# Altium footprint library RCL.PcbLib: 3 footprints
Each footprint in its own frame and in the unit in brackets; x right, y up, seen from the top. Pads: shape width x height; smd on the part's side, far side on the other; paste and mask are expansions set on the pad; w line width, h text height; cw(c..) or ccw(c..) is an arc to the next point about the centre after c.
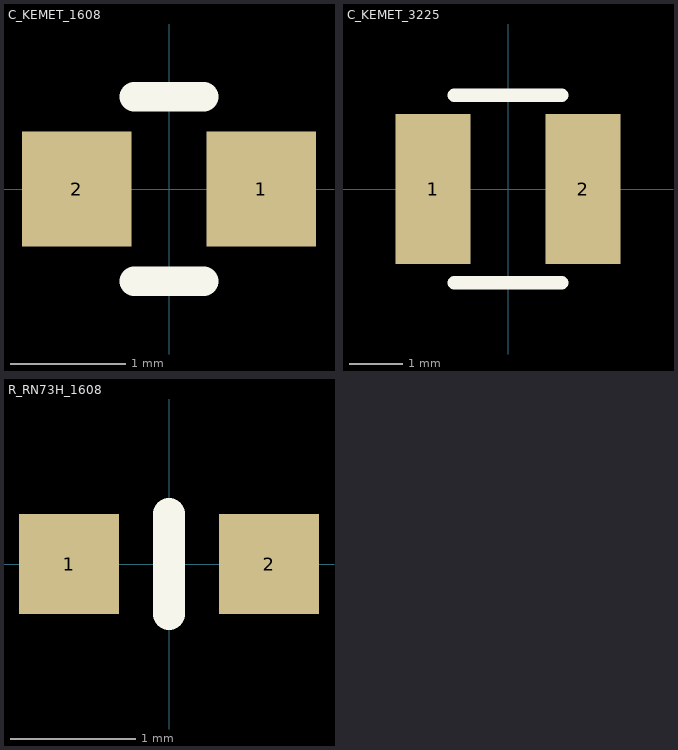
[diagram p0: the footprints below, top view; thin cyan lines are the x and y axes]

## C_KEMET_1608 [mm]
pads (2):
  rect 0.95x1 smd: 1(0.8,0) 2(-0.8,0)
Top Overlay:
  lines w0.254: -0.3,-0.8 0.3,-0.8 ; -0.3,0.8 0,0.8 0.3,0.8
3D body "C_KEMET_1608.step": height 0.8, standoff 0, extent -0.7,-0.4 0.7,0.4

## C_KEMET_3225 [mm]
pads (2):
  rect 1.4x2.8 smd: 1(-1.4,0) 2(1.4,0)
Top Overlay:
  lines w0.254: -1,-1.75 1,-1.75 ; -1,1.75 1,1.75
3D body "C_KEMET_3225.step": height 1.9, standoff 0, extent -1.6,-1.25 1.6,1.25

## R_RN73H_1608 [mm]
pads (2):
  rect 0.8x0.8 smd: 1(-0.8,0) 2(0.8,0)
Top Overlay:
  lines w0.254: 0,-0.4 0,0.4 0,0
3D body "RN73H_1J.step": height 0.45, standoff 0, extent -0.8,-0.4 0.8,0.4